# Altium schematic symbol library SchemLib.SchLib: 2 symbols
Pins are listed as number, name and electrical type; pins without a type are passive.

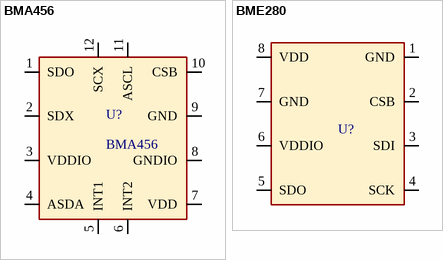
[diagram p0: symbols BMA456 to BME280]

## BMA456
designator U?
footprint BOSCH_LGA-12
pins: 1 SDO, 2 SDX, 3 VDDIO, 4 ASDA, 5 INT1, 6 INT2, 7 VDD, 8 GNDIO, 9 GND, 10 CSB, 11 ASCL, 12 SCX

## BME280
designator U?  (value not drawn)
footprint MODBME280_m
pins: 1 GND, 2 CSB, 3 SDI, 4 SCK, 5 SDO, 6 VDDIO, 7 GND, 8 VDD